# Altium schematic symbol library VoltageRegulators.SchLib: 12 symbols
Pins are listed as number, name and electrical type; pins without a type are passive.

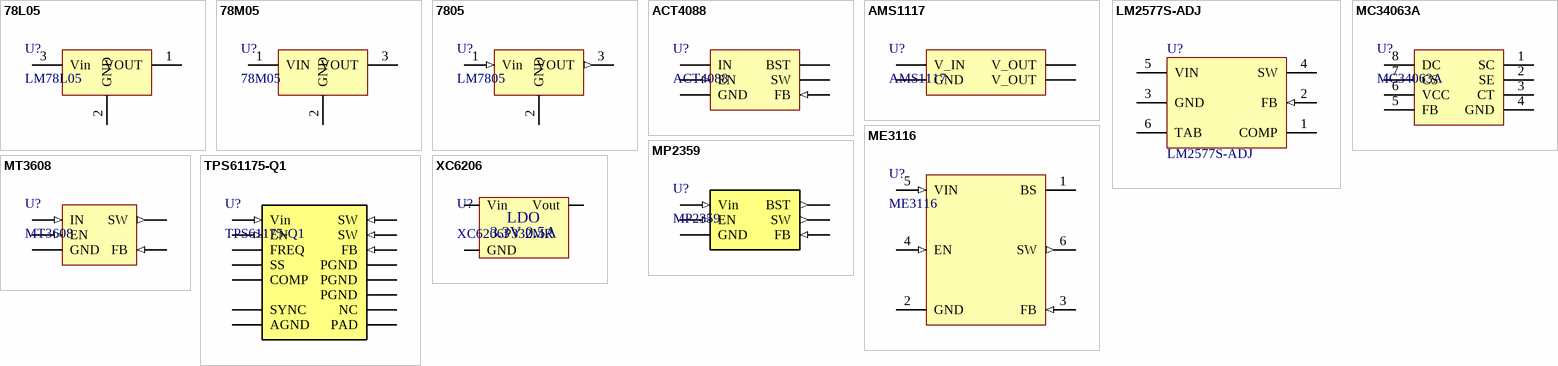
[diagram p0: symbols 78L05 to XC6206]

## 78L05
designator U?, comment LM78L05
Linear Voltage Regulator; DC Input Voltage MAX: 30V; Output Current: 100mA
footprint SOT89-150P409X160-3N (SOT89, 3-Leads, Body 4,50x2,50mm, Pitch 1,50mm, Lead Span 4,1mm, IPC Medium Density)
pins: 1 VOUT (power), 2 GND, 3 Vin (power)

## 78M05
designator U?
Linear Voltage Regulator; DC Input Voltage MAX: 30V; Output Current: 300..700mA
footprint TO-252 (D-PAK, 3-Pads, Body 6,21x6,61mm (max), IPC Medium Density)
pins: 1 VIN (power), 2 GND, 3 VOUT (power)

## 7805
designator U?, comment LM7805
Linear Voltage Regulator; DC Input Voltage MAX: 30V; Output Current: 300..700mA
footprint TO-220-3 (TO-220-3 Vertical standing)
footprint TO-220-3 H (TO-220-3 Horisontal screwed)
pins: 1 Vin (in), 2 GND, 3 VOUT (out)

## ACT4088
designator U?
current-mode step-down DC/DC  converter that supplies up to 1.5A into 5V from a  12V input. 1.4MHz; Vin: 4.5 ~ 28V; Efficency: 92%; Max current: 1.5A; Freqency: 1.4MHz
footprint SOT23-6
pins: 1 SW, 2 IN (power), 3 EN (in), 4 FB (in), 5 GND (power), 6 BST

## AMS1117
designator U?
800mA LDO  15V max
footprint SOT229P700X180-4N (SOT223, 4-Leads, Body 6,50x7,00mm (avg), Pitch 2,29mm, IPC Medium Density)
pins: 1 GND "Power out", 2 V_OUT "Power out", 3 V_IN "Power input", 4 V_OUT "Power out"

## LM2577S-ADJ
designator U?
SIMPLE SWITCHER Step-Up Voltage Regulator, 5-pin TO-263; Manufacturer: National Semiconductor; PackageTopMarking: NSUZXYTTE#*LM2577S*-ADJ P+; PowerWise: N; Code_JEDEC: MO-169-AB; RoHS: N; DatasheetVersion: Apr-2005; PinCount: 5; PackageReference: TS5B; PackageVersion: revD, Apr-2005; CompType: Switcher; PackageDescription: TO-263, Molded, .400 x .390 x .180in, 5 Lead, .067in Pitch, Surface Mount
footprint TO-263-5 (D2-PAK, 6-Leads, Body 8.6x10.2mm, Pitch 1.7mm, Lead Span 14.1mm, IPC Low Density)
pins: 1 COMP, 2 FB (in), 3 GND (power), 4 SW (power), 5 VIN (power), 6 TAB (power)

## MC34063A
designator U?
monolithic control circuit containing the  primary functions required for DC−to−DC converters
footprint SO8 (SOIC, 8-Leads, Body 4,90x4,00mm, Pitch 1,27mm, IPC Medium Density)
pins: 1 SC, 2 SE, 3 CT, 4 GND (power), 5 FB, 6 VCC (power), 7 CS, 8 DC

## ME3116
designator U?
The ME3116 is PWM DC/DC buck (step-down) regulators.; FB: 0.8V; Frequency: 550kHz; V in max: 45V
footprint SOT23-6 (SOT23, 6-Leads, Body 2,90x2,80mm, Pitch 0,95mm, IPC Medium Density)
pins: 1 BS, 2 GND (power), 3 FB (in), 4 EN (in), 5 VIN (in), 6 SW (out)

## MP2359
designator U?
monolithic step-down switch  mode converter with a built-in power MOSFET; Supply Voltage VIN: 4.5V - 24V; Output Voltage VOUT: 0.81V to 15V; Peak Output Current: 1.2A; Frequency: 1.4MHz
footprint TSOP23-6
pins: 1 BST (out), 2 GND (power), 3 FB (in), 4 EN (in), 5 Vin (in), 6 SW (out)

## MT3608
designator U?
MT3608 is a constant frequency, 6-pin SOT23  current mode step-up converter; Vin: 2 ~ 24V; Freqency: 1.2MHz; MOSFET Resistance: 80mOhm; Vout max: 28V
footprint SOT23-6
pins: 1 SW (out), 2 GND (power), 3 FB (in), 4 EN (in), 5 IN (in)

## TPS61175-Q1
designator U?
monolithic switching regulator; Vin: 2.9 - 18V; Vout max: 38V; Inductor: 4.7 - 47uH; Fsw: 200 - 2200kHz; Ta: -40 - 125*C; Digikey part number: 296-24013-2-ND
footprint HTSSOP14 (5.00mm x 4.40mm)
pins: 1 SW (in), 2 SW (in), 3 Vin (in), 4 EN (in), 5 SS, 6 SYNC, 7 AGND, 8 COMP, 9 FB (in), 10 FREQ, 11 NC, 12 PGND, 13 PGND, 14 PGND, 15 PAD

## XC6206
designator U?, comment XC6206P332MR
The XC6206 series are highly precise, low power consumption, high voltage, positive voltage regulators  6V->3.3V; Vin MAX: 6V; Vout: 3.3V; I max: 0.5A
footprint SOT23 (SOT23, 3-Leads, Body 2,90x2,80mm, Pitch 0,95mm, IPC Medium Density)
pins: 1 GND (power), 2 Vout, 3 Vin
text: LDO; 3.3V 0.5A